# Altium schematic symbol library HD3SS6126RUAR.SchLib: 1 symbol
Pins are listed as number, name and electrical type; pins without a type are passive.

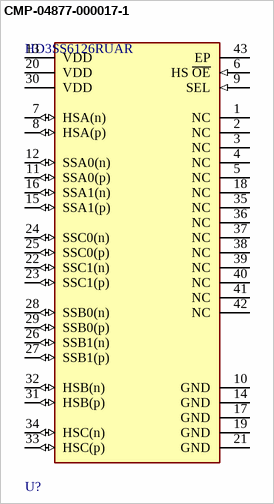
[diagram p0: symbol CMP-04877-000017-1]

## CMP-04877-000017-1
designator U?, comment HD3SS6126RUAR
IC MUX 2:1 8 OHM 42WQFN; On-State Resistance: 8R; Turn-Off Delay Time: 250ns; USB Standard: USB 2.0; Number of Ports: 3; Operating Supply Voltage: 3.3V; Data Rate: 10Gbps; Supply Type: Single; Max Supply Voltage: 3.6V; Bandwidth: 10GHz; Min Supply Voltage: 3V; Logic Function: Multiplexer; Operating Supply Current: 2.4mA; Min Operating Temperature: 0°C; REACH SVHC: No SVHC; Package Quantity: 3000; RoHS Compliant: Yes; Radiation Hardening: No; Lead Free: Lead Free; Packaging: Tape and Reel; Number of Pins: 42; Mount: Surface Mount; Max Operating Temperature: 70°C; Number of Channels: 3; Turn-On Delay Time: 250ns; Weight: 0.001933oz
footprint FP-RUA0042A-IPC_B
footprint FP-RUA0042A-IPC_C
footprint FP-RUA0042A-IPC_A
footprint FP-RUA0042A-MFG
pins: 1 NC, 2 NC, 3 NC, 4 NC, 5 NC, 6 HS ~{OE} (in), 7 HSA(n) (io), 8 HSA(p) (io), 9 SEL (in), 10 GND (power), 11 SSA0(p) (io), 12 SSA0(n) (io), 13 VDD (power), 14 GND (power), 15 SSA1(p) (io), 16 SSA1(n) (io), 17 GND (power), 18 NC, 19 GND (power), 20 VDD (power), 21 GND (power), 22 SSC1(n) (io), 23 SSC1(p) (io), 24 SSC0(n) (io), 25 SSC0(p) (io), 26 SSB1(n) (io), 27 SSB1(p) (io), 28 SSB0(n) (io), 29 SSB0(p) (io), 30 VDD (power), 31 HSB(p) (io), 32 HSB(n) (io), 33 HSC(p) (io), 34 HSC(n) (io), 35 NC, 36 NC, 37 NC, 38 NC, 39 NC, 40 NC, 41 NC, 42 NC, 43 EP